# Altium footprint library 418117270906.PcbLib: 1 footprints
Each footprint in its own frame and in the unit in brackets; x right, y up, seen from the top. Pads: shape width x height; smd on the part's side, far side on the other; paste and mask are expansions set on the pad; w line width, h text height; cw(c..) or ccw(c..) is an arc to the next point about the centre after c.
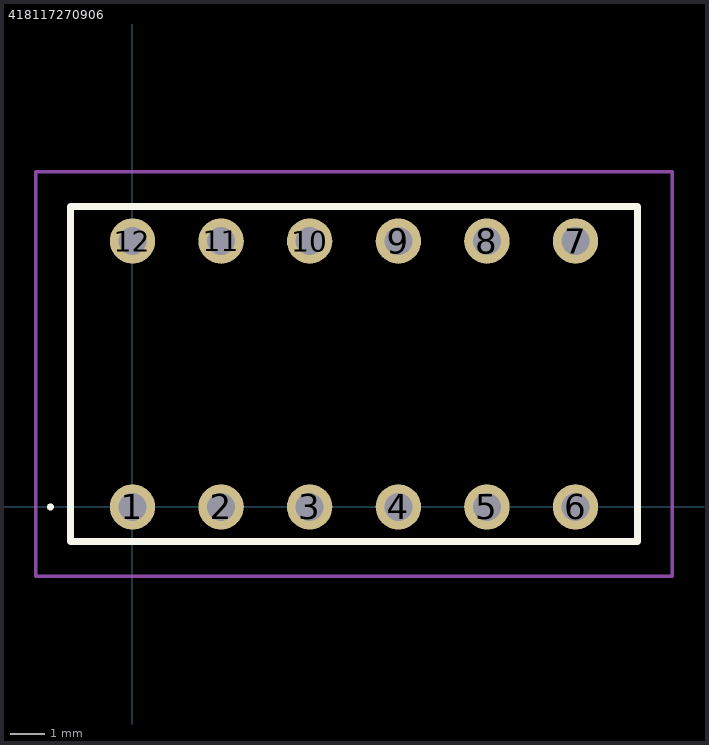
[diagram p0: the footprint, top view; thin cyan lines are the x and y axes]

## 418117270906 [mm]
pads (12):
  round 1.3 hole 0.8: 1(0,0) 2(2.54,0) 3(5.08,0) 4(7.62,0) 5(10.16,0) 6(12.7,0) 7(12.7,7.62) 8(10.16,7.62) 9(7.62,7.62) 10(5.08,7.62) 11(2.54,7.62) 12(0,7.62)
Top Overlay:
  lines w0.1: -2.4,0 cw(c-2.35,0) -2.3,0 ; -2.4,0 -2.4,0 ; -2.4,0 ccw(c-2.35,0) -2.3,0 ; -2.3,0 -2.3,0
  lines w0.2: -1.77,-0.99 14.47,-0.99 14.47,8.61 -1.77,8.61 -1.77,-0.99
Mechanical 15:
  lines w0.1: -1.77,-0.99 14.47,-0.99 14.47,8.61 -1.77,8.61 -1.77,-0.99
Mechanical 20:
  lines w0.1: -2.77,-1.99 15.47,-1.99 15.47,9.61 -2.77,9.61 -2.77,-1.99
3D body "418117270906.stp": height 5.8, standoff -4.65, extent -10,-3.376 10,3.376